# Altium integrated library DSN-MINI-360.IntLib: 1 symbol
Pins are listed as number, name and electrical type; pins without a type are passive.

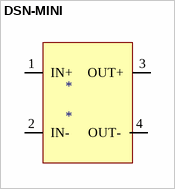
[diagram p0: symbol DSN-MINI]

## DSN-MINI
designator *
footprint PCBComponent_1
pins: 1 IN+ (power), 2 IN-, 3 OUT+ (power), 4 OUT-